# Altium footprint library PcbLib1.PcbLib: 2 footprints
Each footprint in its own frame and in the unit in brackets; x right, y up, seen from the top. Pads: shape width x height; smd on the part's side, far side on the other; paste and mask are expansions set on the pad; w line width, h text height; cw(c..) or ccw(c..) is an arc to the next point about the centre after c.
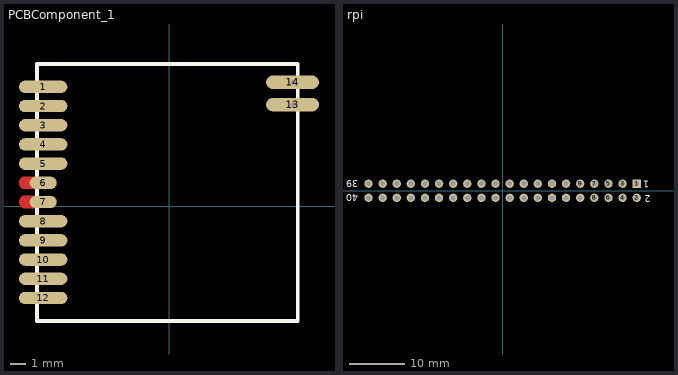
[diagram p0: the footprints below, top view; thin cyan lines are the x and y axes]

## PCBComponent_1 [mm]
height 17.272
pads (14):
  oval 3.2x0.82 smd: 1(-8.336,7.901) 2(-8.336,6.631) 3(-8.336,5.361) 4(-8.336,4.091) 5(-8.336,2.821) 8(-8.336,-0.989) 9(-8.336,-2.259) 10(-8.336,-3.529) 11(-8.336,-4.799) 12(-8.336,-6.069)
  oval 1.8x0.82 smd: 6(-8.336,1.551) 7(-8.336,0.281)
  oval 3.5x0.9 / inner round 0 / far side round 0.5 hole 0.3: 13(8.164,6.721) 14(8.164,8.201)
Top Layer:
  region: -8.806,1.961 -9.646,1.961 -9.676,1.948 -9.705,1.932 -9.733,1.915 -9.76,1.895 -9.785,1.874 -9.808,1.851 -9.83,1.826 -9.849,1.799 -9.867,1.771 -9.882,1.742 -9.895,1.712 -9.906,1.681 -9.915,1.649 -9.921,1.617 -9.924,1.584 -9.926,1.551 -9.924,1.518 -9.921,1.485 -9.915,1.453 -9.906,1.421 -9.895,1.39 -9.882,1.36 -9.867,1.331 -9.849,1.303 -9.829,1.276 -9.808,1.251 -9.785,1.228 -9.76,1.207 -9.733,1.187 -9.705,1.169 -9.676,1.154 -9.646,1.141 -8.806,1.141
  region: -8.806,0.691 -9.646,0.691 -9.676,0.678 -9.705,0.662 -9.733,0.645 -9.76,0.625 -9.785,0.604 -9.808,0.581 -9.83,0.556 -9.849,0.529 -9.867,0.501 -9.882,0.472 -9.895,0.442 -9.906,0.411 -9.915,0.379 -9.921,0.347 -9.924,0.314 -9.926,0.281 -9.924,0.248 -9.921,0.215 -9.915,0.183 -9.906,0.151 -9.895,0.12 -9.882,0.09 -9.867,0.061 -9.849,0.033 -9.829,0.006 -9.808,-0.019 -9.785,-0.042 -9.76,-0.063 -9.733,-0.083 -9.705,-0.101 -9.676,-0.116 -9.646,-0.129 -8.806,-0.129
Top Overlay:
  lines w0.254: -8.736,-7.599 -8.736,9.401 8.504,9.401 8.504,-7.599 -8.736,-7.599

## rpi [mm]
pads (40):
  rect 1.5x1.5 hole 0.9: 1(24.13,1.27)
  round 1.5 hole 0.9: 2(24.13,-1.27) 3(21.59,1.27) 4(21.59,-1.27) 5(19.05,1.27) 6(19.05,-1.27) 7(16.51,1.27) 8(16.51,-1.27) 9(13.97,1.27) 10(13.97,-1.27) 11(11.43,1.27) 12(11.43,-1.27) 13(8.89,1.27) 14(8.89,-1.27) 15(6.35,1.27) 16(6.35,-1.27) 17(3.81,1.27) 18(3.81,-1.27) 19(1.27,1.27) 20(1.27,-1.27) 21(-1.27,1.27) 22(-1.27,-1.27) 23(-3.81,1.27) 24(-3.81,-1.27) 25(-6.35,1.27) 26(-6.35,-1.27) 27(-8.89,1.27) 28(-8.89,-1.27) 29(-11.43,1.27) 30(-11.43,-1.27) 31(-13.97,1.27) 32(-13.97,-1.27) 33(-16.51,1.27) 34(-16.51,-1.27) 35(-19.05,1.27) 36(-19.05,-1.27) 37(-21.59,1.27) 38(-21.59,-1.27) 39(-24.13,1.27) 40(-24.13,-1.27)
Top Overlay:
  text "40" at -25.95,-0.65 h1.27
  text "39" at -26.025,1.9 h1.27
  text "1" at 26.4,1.775 h1.27
  text "2" at 26.7,-0.775 h1.27
Bottom Overlay:
  lines w0.2: -25.527,-2.54 -25.527,2.54 25.4,2.54 25.4,-2.54 -25.527,-2.54
3D body "female_header_a-bl254-dg-z32d.stp": height 8.5, standoff -3.2, extent -15.365,-2.627 25.525,2.373
3D body "female_header_a-bl254-dg-z32d.stp": height 8.5, standoff -3.2, extent -25.525,-2.625 15.365,2.375